# EAGLE library part DAC-DAC0808 (library ds_ic_peripherals)
8-Bit D/A Converter
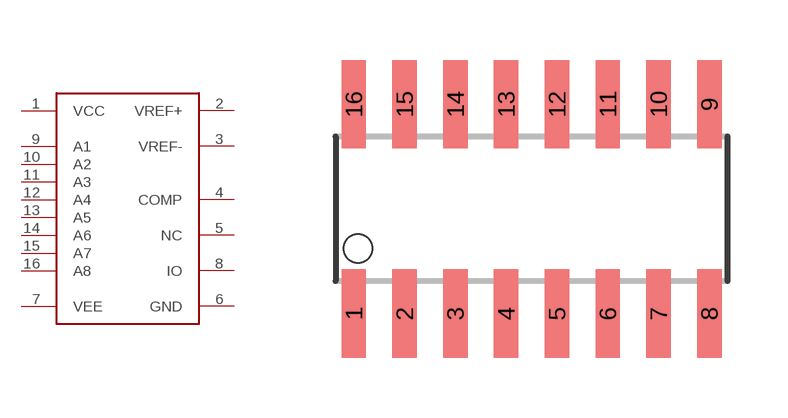
[diagram p41: symbol with the pads of SO16; footprint SO16]

Designator prefix IC

## DAC-DAC0808  [SO16]
1  VCC
2  VREF+
3  VREF-
4  COMP
5  NC
6  GND
7  VEE
8  IO
9  A1
10  A2
11  A3
12  A4
13  A5
14  A6
15  A7
16  A8

## Footprint SO16 (pad centres in mm)
smd 0.61 x 2.21: 1 -4.445,-2.616; 2 -3.175,-2.616; 3 -1.905,-2.616; 4 -0.635,-2.616; 5 0.635,-2.616; 6 1.905,-2.616; 7 3.175,-2.616; 8 4.445,-2.616; 9 4.445,2.616; 10 3.175,2.616; 11 1.905,2.616; 12 0.635,2.616; 13 -0.635,2.616; 14 -1.905,2.616; 15 -3.175,2.616; 16 -4.445,2.616